# Altium schematic symbol library GP1S092HCPIF.Schlib: 1 symbol
Pins are listed as number, name and electrical type; pins without a type are passive.

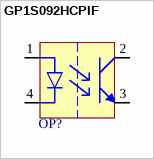
[diagram p0: symbol GP1S092HCPIF]

## GP1S092HCPIF
designator OP?  (value not drawn)
Photointerrupter slot 2mm SMD
footprint GP1S092HCPIF
pins: 1, 2, 3, 4